# Altium footprint library BMI-S-107.PcbLib: 1 footprints
Each footprint in its own frame and in the unit in brackets; x right, y up, seen from the top. Pads: shape width x height; smd on the part's side, far side on the other; paste and mask are expansions set on the pad; w line width, h text height; cw(c..) or ccw(c..) is an arc to the next point about the centre after c.
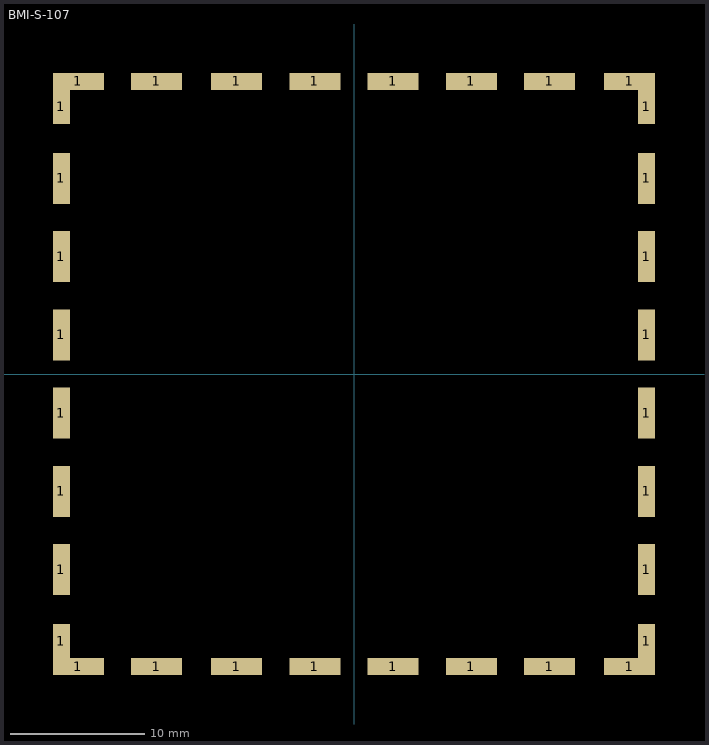
[diagram p0: the footprint, top view; thin cyan lines are the x and y axes]

## BMI-S-107 [mil]
pads (32):
  rect 50x100 smd: 1(-860,-785) 1(-860,785) 1(860,-785) 1(860,785)
  rect 50x150 smd: 1(-860,-575) 1(-860,-345) 1(-860,-115) 1(-860,115) 1(-860,345) 1(-860,575) 1(860,-575) 1(860,-345) 1(860,-115) 1(860,115) 1(860,345) 1(860,575)
  rect 150x50 smd: 1(-810,-860) 1(-810,860) 1(-580,-860) 1(-580,860) 1(-345,-860) 1(-345,860) 1(-115,-860) 1(-115,860) 1(115,-860) 1(115,860) 1(345,-860) 1(345,860) 1(575,-860) 1(575,860) 1(810,-860) 1(810,860)
3D body: height 384, standoff 0, extent -875,-875 880,875